# EAGLE library part STEPSTICK_V2 (library we-board)
SilentStepStick Trinamic TMC2xxx Stepper Motor Driver TMC2100 - CFG pins for configuration TMC2130 - CFG pins and SPI for configuration TMC220x - CFG pins and UART for configuration
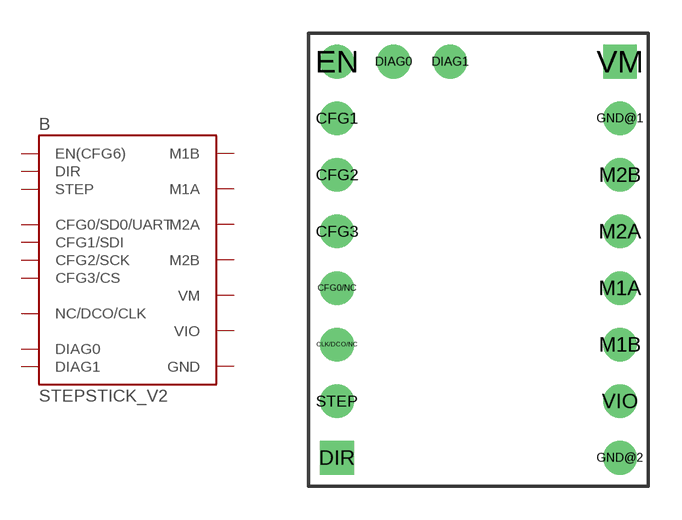
[diagram p18: symbol with the pads of SSS_V2_TP; footprint SSS_V2_TP]

Designator prefix B

## STEPSTICK_V2-TP  [SSS_V2_TP]
CFG0/NC  CFG0/SD0/UART
CFG1  CFG1/SDI
CFG2  CFG2/SCK
CFG3  CFG3/CS
CLK/DCO/NC  NC/DCO/CLK
DIAG0  DIAG0
DIAG1  DIAG1
DIR  DIR  in
EN  EN(CFG6)
GND@1  GND  pwr
GND@2  GND  pwr
M1A  M1A  out
M1B  M1B  out
M2A  M2A  out
M2B  M2B  out
STEP  STEP  in
VIO  VIO  pwr
VM  VM  pwr

## Footprint SSS_V2_TP (pad centres in mm)
21 tPlace
drill 1: CFG0/NC -6.35,-1.27; CFG1 -6.35,6.35; CFG2 -6.35,3.81; CFG3 -6.35,1.27; CLK/DCO/NC -6.35,-3.81; DIAG0 -3.81,8.89; DIAG1 -1.27,8.89; EN -6.35,8.89; GND@1 6.35,6.35; GND@2 6.35,-8.89; M1A 6.35,-1.27; M1B 6.35,-3.81; M2A 6.35,1.27; M2B 6.35,3.81; STEP -6.35,-6.35; VIO 6.35,-6.35
drill 1 square: DIR -6.35,-8.89; VM 6.35,8.89